# Altium footprint library QFN.PcbLib: 20 footprints (part 1 of 2)
Each footprint in its own frame and in the unit in brackets; x right, y up, seen from the top. Pads: shape width x height; smd on the part's side, far side on the other; paste and mask are expansions set on the pad; w line width, h text height; cw(c..) or ccw(c..) is an arc to the next point about the centre after c.
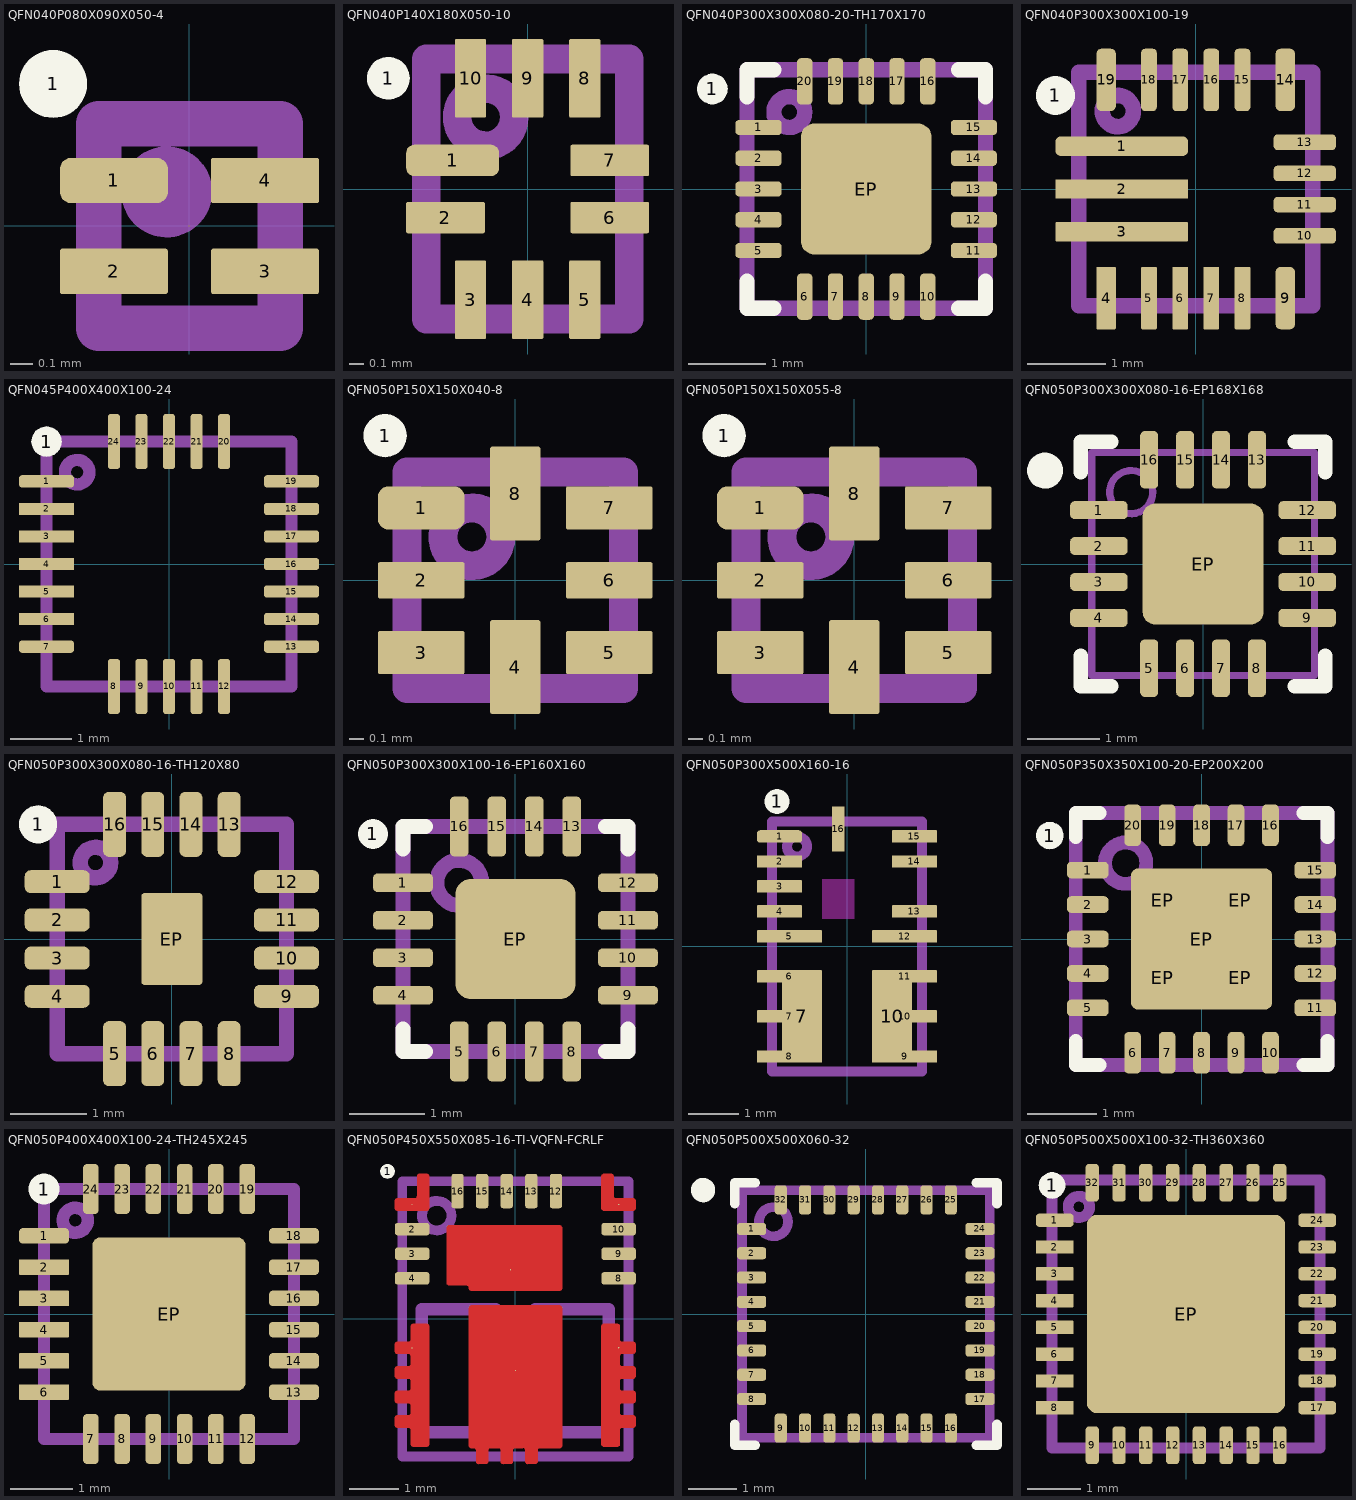
[diagram p0: the footprints below, top view; thin cyan lines are the x and y axes]

## QFN040P080X090X050-4 [mm] "UGFN-HR TI Package RAA"
pads (5):
  round 0.3 on Top Overlay: 1(-0.6,0.625)
  rrect50% 0.475x0.2 smd mask+0.038: 1(-0.333,0.2)
  rrect10% 0.475x0.2 smd mask+0.038: 2(-0.333,-0.2) 3(0.333,-0.2) 4(0.333,0.2)
Top Assembly:
  circle w0.2: c-0.1,0.15 r0.1
  lines w0.2: -0.4,-0.45 0.4,-0.45 0.4,0.45 -0.4,0.45 -0.4,-0.45
3D body "QFN040P080X090X050-4.step": height 0.6, standoff 0, extent -0.413,-0.45 0.41,0.45

## QFN040P140X180X050-10 [mm] "JEDEC SOT1160-1 XQFN10"
pads (11):
  round 0.3 on Top Overlay: 1(-0.975,0.775)
  rrect50% 0.65x0.22 smd mask+0.038: 1(-0.525,0.2)
  rrect10% 0.55x0.22 smd mask+0.038: 2(-0.575,-0.2) 6(0.575,-0.2) 7(0.575,0.2)
  rrect10% 0.22x0.55 smd mask+0.038: 3(-0.4,-0.775) 4(0,-0.775) 5(0.4,-0.775) 8(0.4,0.775) 9(0,0.775) 10(-0.4,0.775)
Top Assembly:
  circle w0.2: c-0.293,0.503 r0.2
  lines w0.2: -0.71,-0.91 0.71,-0.91 0.71,0.91 -0.71,0.91 -0.71,-0.91
3D body "QFN040P140X180X050-10.step": height 0.5, standoff 0, extent -0.71,-0.91 0.71,0.91

## QFN040P300X300X080-20-TH170X170 [mm]
pads (22):
  round 0.4 on Top Overlay: 1(-2,1.3)
  rrect50% 0.6x0.2 smd: 1(-1.4,0.8) 2(-1.4,0.4) 3(-1.4,0) 4(-1.4,-0.4) 5(-1.4,-0.8) 11(1.4,-0.8) 12(1.4,-0.4) 13(1.4,0) 14(1.4,0.4) 15(1.4,0.8)
  rrect50% 0.2x0.6 smd: 6(-0.8,-1.4) 7(-0.4,-1.4) 8(0,-1.4) 9(0.4,-1.4) 10(0.8,-1.4) 16(0.8,1.4) 17(0.4,1.4) 18(0,1.4) 19(-0.4,1.4) 20(-0.8,1.4)
  rrect20% 1.7x1.7 smd: EP(0,0)
Top Overlay:
  lines w0.2: -1.55,-1.2 -1.55,-1.55 -1.2,-1.55 ; -1.55,1.2 -1.55,1.55 -1.2,1.55 ; 1.2,-1.55 1.55,-1.55 1.55,-1.2 ; 1.2,1.55 1.55,1.55 1.55,1.2
Top Assembly:
  circle w0.2: c-1,1 r0.2
  lines w0.2: -1.55,-1.55 1.55,-1.55 1.55,1.55 -1.55,1.55 -1.55,-1.55
3D body: height 0.8, standoff 0.05, extent -1.55,-1.55 1.55,1.55
3D body: height 0.2, standoff 0, extent -0.85,-0.85 0.85,0.85
3D body: height 0.2, standoff 0, extent -1.551,-0.1 -1.051,0.1
3D body: height 0.2, standoff 0, extent -1.551,0.3 -1.051,0.5
3D body: height 0.2, standoff 0, extent -1.551,0.7 -1.051,0.9
3D body: height 0.2, standoff 0, extent -1.551,-0.5 -1.051,-0.3
3D body: height 0.2, standoff 0, extent -1.551,-0.9 -1.051,-0.7
3D body: height 0.2, standoff 0, extent -0.9,-1.551 -0.7,-1.051
3D body: height 0.2, standoff 0, extent -0.5,-1.551 -0.3,-1.051
3D body: height 0.2, standoff 0, extent -0.1,-1.551 0.1,-1.051
3D body: height 0.2, standoff 0, extent 0.3,-1.551 0.5,-1.051
3D body: height 0.2, standoff 0, extent 0.7,-1.551 0.9,-1.051
3D body: height 0.2, standoff 0, extent 1.051,-0.9 1.551,-0.7
3D body: height 0.2, standoff 0, extent 1.051,-0.5 1.551,-0.3
3D body: height 0.2, standoff 0, extent 1.051,-0.1 1.551,0.1
3D body: height 0.2, standoff 0, extent 1.051,0.3 1.551,0.5
3D body: height 0.2, standoff 0, extent 1.051,0.7 1.551,0.9
3D body: height 0.2, standoff 0, extent 0.7,1.051 0.9,1.551
3D body: height 0.2, standoff 0, extent 0.3,1.051 0.5,1.551
3D body: height 0.2, standoff 0, extent -0.1,1.051 0.1,1.551
3D body: height 0.2, standoff 0, extent -0.5,1.051 -0.3,1.551
3D body: height 0.2, standoff 0, extent -0.9,1.051 -0.7,1.551
3D body: height 0.81, standoff 0.8, extent -1.288,0.705 -0.688,1.305

## QFN040P300X300X100-19 [mm] "MP2659"
pads (20):
  round 0.5 on Top Overlay: 1(-1.8,1.2)
  rrect50% 1.7x0.25 smd mask+0.038: 1(-0.95,0.55)
  rrect10% 1.7x0.25 smd mask+0.038: 2(-0.95,0) 3(-0.95,-0.55)
  rrect10% 0.25x0.8 smd mask+0.038: 4(-1.15,-1.4)
  rrect10% 0.2x0.8 smd mask+0.038: 5(-0.6,-1.4) 6(-0.2,-1.4) 7(0.2,-1.4) 8(0.6,-1.4)
  rrect50% 0.25x0.8 smd mask+0.038: 9(1.15,-1.4) 14(1.15,1.4) 19(-1.15,1.4)
  rrect50% 0.8x0.2 smd mask+0.038: 10(1.4,-0.6) 11(1.4,-0.2) 12(1.4,0.2) 13(1.4,0.6)
  rrect50% 0.2x0.8 smd mask+0.038: 15(0.6,1.4) 16(0.2,1.4) 17(-0.2,1.4) 18(-0.6,1.4)
Top Assembly:
  circle w0.2: c-1,1 r0.2
  lines w0.2: -1.5,-1.5 1.5,-1.5 1.5,1.5 -1.5,1.5 -1.5,-1.5
3D body "QFN040P300X300X100-19.stp": height 1.01, standoff 0, extent -1.51,-1.51 1.51,1.51

## QFN045P400X400X100-24 [mm]
pads (25):
  rrect50% 0.9x0.2 smd mask+0: 1(-2,1.35) 7(-2,-1.35) 13(2,-1.35) 14(2,-0.9) 15(2,-0.45) 16(2,0) 17(2,0.45) 18(2,0.9) 19(2,1.35)
  round 0.5 on Top Overlay: 1(-2,2)
  rrect10% 0.9x0.2 smd mask+0: 2(-2,0.9) 3(-2,0.45) 4(-2,0) 5(-2,-0.45) 6(-2,-0.9)
  rrect50% 0.2x0.9 smd mask+0: 8(-0.9,-2) 9(-0.45,-2) 10(0,-2) 11(0.45,-2) 12(0.9,-2) 20(0.9,2) 21(0.45,2) 22(0,2) 23(-0.45,2) 24(-0.9,2)
Top Assembly:
  circle w0.2: c-1.5,1.5 r0.2
  lines w0.2: -2,-2 -2,2 2,2 2,-2 -2,-2
3D body "QFN045P400X400X100-24.stp": height 1.01, standoff 0, extent -2.005,-2.005 2.005,2.005

## QFN050P150X150X040-8 [mm] "JEDEC MO-288 X2ECD TI Package RUG"
pads (9):
  round 0.3 on Top Overlay: 1(-0.9,1)
  rrect50% 0.6x0.3 smd mask+0.038: 1(-0.65,0.5)
  rrect10% 0.6x0.25 smd mask+0.038: 2(-0.65,0) 6(0.65,0)
  rrect10% 0.6x0.3 smd mask+0.038: 3(-0.65,-0.5) 5(0.65,-0.5) 7(0.65,0.5)
  rrect10% 0.35x0.65 smd mask+0.038: 4(0,-0.6) 8(0,0.6)
Top Assembly:
  circle w0.2: c-0.3,0.3 r0.2
  lines w0.2: -0.75,-0.75 -0.75,0.75 0.75,0.75 0.75,-0.75 -0.75,-0.75
3D body "QFN050P150X150X040-8-RUG.stp": height 0.41, standoff 0, extent -0.76,-0.76 0.76,0.76

## QFN050P150X150X055-8 [mm] "JEDEC MO-288 X2ECD TI Package RSE"
height 0.55
pads (9):
  round 0.3 on Top Overlay: 1(-0.9,1)
  rrect50% 0.6x0.3 smd mask+0.038: 1(-0.65,0.5)
  rrect10% 0.6x0.25 smd mask+0.038: 2(-0.65,0) 6(0.65,0)
  rrect10% 0.6x0.3 smd mask+0.038: 3(-0.65,-0.5) 5(0.65,-0.5) 7(0.65,0.5)
  rrect10% 0.35x0.65 smd mask+0.038: 4(0,-0.6) 8(0,0.6)
Top Assembly:
  circle w0.2: c-0.3,0.3 r0.2
  lines w0.2: -0.75,-0.75 0.75,-0.75 0.75,0.75 -0.75,0.75 -0.75,-0.75
3D body "QFN050P150X150X040-8-RUG.stp": height 0.56, standoff 0.15, extent -0.76,-0.76 0.76,0.76

## QFN050P300X300X080-16-EP168X168 [mm] "QFN, 16-Leads, Body 3.00x3.00mm, Pitch 0.50mm, Thermal Pad 1.68x1.68mm, IPC Medium Density"
height 0.8
pads (17):
  rrect50% 0.8x0.25 smd: 1(-1.45,0.75) 2(-1.45,0.25) 3(-1.45,-0.25) 4(-1.45,-0.75) 9(1.45,-0.75) 10(1.45,-0.25) 11(1.45,0.25) 12(1.45,0.75)
  rrect50% 0.25x0.8 smd: 5(-0.75,-1.45) 6(-0.25,-1.45) 7(0.25,-1.45) 8(0.75,-1.45) 13(0.75,1.45) 14(0.25,1.45) 15(-0.25,1.45) 16(-0.75,1.45)
  rrect20% 1.68x1.68 smd: EP(0,0)
Top Overlay:
  circle w0.25: c-2.2,1.3 r0.125
  lines w0.2: -1.7,-1.275 -1.7,-1.7 -1.275,-1.7 ; -1.7,1.275 -1.7,1.7 -1.275,1.7 ; 1.275,-1.7 1.7,-1.7 1.7,-1.275 ; 1.275,1.7 1.7,1.7 1.7,1.275
Top Assembly:
  circle w0.1: c-1,1 r0.3
  lines w0.1: -1.55,-1.55 1.55,-1.55 1.55,1.55 -1.55,1.55 -1.55,-1.55
3D body "QFN050P300X300X080-16-EP173X173.step": height 0.8, standoff 0, extent -1.56,-1.56 1.56,1.56

## QFN050P300X300X080-16-TH120X80 [mm]
pads (18):
  round 0.5 on Top Overlay: 1(-1.75,1.5)
  rrect50% 0.85x0.3 smd: 1(-1.5,0.75) 2(-1.5,0.25) 3(-1.5,-0.25) 4(-1.5,-0.75) 9(1.5,-0.75) 10(1.5,-0.25) 11(1.5,0.25) 12(1.5,0.75)
  rrect50% 0.3x0.85 smd: 5(-0.75,-1.5) 6(-0.25,-1.5) 7(0.25,-1.5) 8(0.75,-1.5) 13(0.75,1.5) 14(0.25,1.5) 15(-0.25,1.5) 16(-0.75,1.5)
  rrect10% 0.8x1.2 smd: EP(0,0)
Top Assembly:
  circle w0.2: c-1,1 r0.2
  lines w0.2: -1.5,-1.5 -1.5,1.5 1.5,1.5 1.5,-1.5 -1.5,-1.5
3D body "QFN050P300X300X080-16-TH120X80.stp": height 0.81, standoff 0, extent -1.505,-1.505 1.505,1.505

## QFN050P300X300X100-16-EP160X160 [mm]
pads (18):
  round 0.4 on Top Overlay: 1(-1.9,1.4)
  rrect50% 0.8x0.25 smd: 1(-1.5,0.75) 2(-1.5,0.25) 3(-1.5,-0.25) 4(-1.5,-0.75) 9(1.5,-0.75) 10(1.5,-0.25) 11(1.5,0.25) 12(1.5,0.75)
  rrect50% 0.25x0.8 smd: 5(-0.75,-1.5) 6(-0.25,-1.5) 7(0.25,-1.5) 8(0.75,-1.5) 13(0.75,1.5) 14(0.25,1.5) 15(-0.25,1.5) 16(-0.75,1.5)
  rrect25% 1.6x1.6 smd: EP(0,0)
Top Overlay:
  lines w0.2: -1.5,-1.2 -1.5,-1.5 -1.2,-1.5 ; -1.5,1.2 -1.5,1.5 -1.2,1.5 ; 1.2,-1.5 1.5,-1.5 1.5,-1.2 ; 1.2,1.5 1.5,1.5 1.5,1.2
Top Assembly:
  circle w0.2: c-0.75,0.75 r0.3
  lines w0.2: -1.5,-1.5 -1.5,1.5 1.5,1.5 1.5,-1.5 -1.5,-1.5
3D body: height 1.01, standoff 1, extent -1.3,0.9 -0.9,1.3
3D body: height 1, standoff 0.03, extent -1.5,-1.5 1.5,1.5
3D body: height 0.2, standoff 0, extent -0.8,-0.8 0.8,0.8
3D body: height 0.2, standoff 0, extent -0.875,1.1 -0.625,1.51
3D body: height 0.2, standoff 0, extent -0.375,1.1 -0.125,1.51
3D body: height 0.2, standoff 0, extent 0.125,1.1 0.375,1.51
3D body: height 0.2, standoff 0, extent 0.625,1.1 0.875,1.51
3D body: height 0.2, standoff 0, extent 1.1,0.625 1.51,0.875
3D body: height 0.2, standoff 0, extent 1.1,0.125 1.51,0.375
3D body: height 0.2, standoff 0, extent 1.1,-0.375 1.51,-0.125
3D body: height 0.2, standoff 0, extent 1.1,-0.875 1.51,-0.625
3D body: height 0.2, standoff 0, extent 0.625,-1.51 0.875,-1.1
3D body: height 0.2, standoff 0, extent 0.125,-1.51 0.375,-1.1
3D body: height 0.2, standoff 0, extent -0.375,-1.51 -0.125,-1.1
3D body: height 0.2, standoff 0, extent -0.875,-1.51 -0.625,-1.1
3D body: height 0.2, standoff 0, extent -1.51,-0.875 -1.1,-0.625
3D body: height 0.2, standoff 0, extent -1.51,-0.375 -1.1,-0.125
3D body: height 0.2, standoff 0, extent -1.51,0.125 -1.1,0.375
3D body: height 0.2, standoff 0, extent -1.51,0.625 -1.1,0.875

## QFN050P300X500X160-16 [mm] "Recom RPX-1.0-R"
pads (19):
  round 0.5 on Top Overlay: 1(-1.4,2.9)
  rrect50% 0.9x0.25 smd mask+0.038: 1(-1.35,2.2)
  rrect10% 0.9x0.25 smd mask+0.038: 2(-1.35,1.7) 3(-1.35,1.2) 4(-1.35,0.7) 13(1.35,0.7) 14(1.35,1.7) 15(1.35,2.2)
  rrect10% 1.3x0.25 smd mask+0.038: 5(-1.15,0.2) 6(-1.15,-0.6) 7(-1.15,-1.4) 8(-1.15,-2.2) 9(1.15,-2.2) 10(1.15,-1.4) 11(1.15,-0.6) 12(1.15,0.2)
  rrect10% 0.8x1.85 smd mask+0.038: 7(-0.9,-1.4) 10(0.9,-1.4)
  rrect10% 0.25x0.9 smd mask+0.038: 16(-0.175,2.35)
Top Layer keep-out:
  rectangle: -0.5,0.55 0.15,1.35
Top Assembly:
  circle w0.2: c-1,2 r0.2
  lines w0.2: -1.5,-2.5 -1.5,2.5 1.5,2.5 1.5,-2.5 -1.5,-2.5
3D body "QFN050P300X500X160-16.stp": height 1.6, standoff 0, extent -1.505,-2.5 1.505,2.505

## QFN050P350X350X100-20-EP200X200 [mm]
pads (26):
  round 0.4 on Top Overlay: 1(-2.2,1.5)
  rrect50% 0.6x0.24 smd: 1(-1.65,1) 2(-1.65,0.5) 3(-1.65,0) 4(-1.65,-0.5) 5(-1.65,-1) 11(1.65,-1) 12(1.65,-0.5) 13(1.65,0) 14(1.65,0.5) 15(1.65,1)
  rrect50% 0.24x0.6 smd: 6(-1,-1.65) 7(-0.5,-1.65) 8(0,-1.65) 9(0.5,-1.65) 10(1,-1.65) 16(1,1.65) 17(0.5,1.65) 18(0,1.65) 19(-0.5,1.65) 20(-1,1.65)
  rrect20% 0.92x0.92 on Top Paste: EP(-0.56,-0.56) EP(-0.56,0.56) EP(0.56,-0.56) EP(0.56,0.56)
  rrect10% 2.05x2.05 smd paste-2539.97: EP(0,0)
Top Overlay:
  lines w0.2: -1.825,-1.475 -1.825,-1.825 -1.475,-1.825 ; -1.825,1.475 -1.825,1.825 -1.475,1.825 ; 1.475,-1.825 1.825,-1.825 1.825,-1.475 ; 1.475,1.825 1.825,1.825 1.825,1.475
Top Assembly:
  circle w0.2: c-1.1,1.1 r0.3
  lines w0.2: -1.825,-1.825 -1.825,1.825 1.825,1.825 1.825,-1.825 -1.825,-1.825
3D body: height 1, standoff 0.05, extent -1.825,-1.825 1.825,1.825
3D body: height 0.2, standoff 0, extent -1.826,-0.12 -1.326,0.12
3D body: height 0.2, standoff 0, extent -1.826,0.38 -1.326,0.62
3D body: height 0.2, standoff 0, extent -1.826,0.88 -1.326,1.12
3D body: height 0.2, standoff 0, extent -1.826,-0.62 -1.326,-0.38
3D body: height 0.2, standoff 0, extent -1.826,-1.12 -1.326,-0.88
3D body: height 0.2, standoff 0, extent -0.12,-1.826 0.12,-1.326
3D body: height 0.2, standoff 0, extent -0.62,-1.826 -0.38,-1.326
3D body: height 0.2, standoff 0, extent -1.12,-1.826 -0.88,-1.326
3D body: height 0.2, standoff 0, extent 0.38,-1.826 0.62,-1.326
3D body: height 0.2, standoff 0, extent 0.88,-1.826 1.12,-1.326
3D body: height 0.2, standoff 0, extent 1.326,-0.12 1.826,0.12
3D body: height 0.2, standoff 0, extent 1.326,-0.62 1.826,-0.38
3D body: height 0.2, standoff 0, extent 1.326,-1.12 1.826,-0.88
3D body: height 0.2, standoff 0, extent 1.326,0.38 1.826,0.62
3D body: height 0.2, standoff 0, extent 1.326,0.88 1.826,1.12
3D body: height 0.2, standoff 0, extent -0.12,1.326 0.12,1.826
3D body: height 0.2, standoff 0, extent 0.38,1.326 0.62,1.826
3D body: height 0.2, standoff 0, extent 0.88,1.326 1.12,1.826
3D body: height 0.2, standoff 0, extent -0.62,1.326 -0.38,1.826
3D body: height 0.2, standoff 0, extent -1.12,1.326 -0.88,1.826
3D body: height 0.2, standoff 0, extent -1.025,-1.025 1.025,1.025
3D body: height 1.01, standoff 1, extent -1.5,0.9 -0.9,1.5

## QFN050P400X400X100-24-TH245X245 [mm]
pads (26):
  rrect50% 0.8x0.25 smd mask+0.038: 1(-2,1.25) 13(2,-1.25) 14(2,-0.75) 15(2,-0.25) 16(2,0.25) 17(2,0.75) 18(2,1.25)
  round 0.5 on Top Overlay: 1(-2,2)
  rrect10% 0.8x0.25 smd mask+0.038: 2(-2,0.75) 3(-2,0.25) 4(-2,-0.25) 5(-2,-0.75) 6(-2,-1.25)
  rrect50% 0.25x0.8 smd mask+0.038: 7(-1.25,-2) 8(-0.75,-2) 9(-0.25,-2) 10(0.25,-2) 11(0.75,-2) 12(1.25,-2) 19(1.25,2) 20(0.75,2) 21(0.25,2) 22(-0.25,2) 23(-0.75,2) 24(-1.25,2)
  rrect10% 2.45x2.45 smd mask+0.038: EP(0,0)
Top Assembly:
  circle w0.2: c-1.5,1.5 r0.2
  lines w0.2: -2,-2 -2,2 2,2 2,-2 -2,-2
3D body "QFN050P400X400X100-24-TH245X245.stp": height 0.81, standoff 0, extent -2.01,-2.01 2.01,2.01

## QFN050P450X550X085-16-TI-VQFN-FCRLF [mm] "QFN-16 Texas Instruments VQFN-FCRLF  (RAR0017B)"
pads (18):
  round 0.3 on Top Overlay: 1(-2.6,3)
  round 0.025 smd: 1(-2.1,2.325) 5(-2.1,-0.587) 6(0,-1.05) 7(2.1,-0.587) 11(2.1,2.325) 17(-0.1,1)
  rrect40% 0.7x0.25 smd: 2(-2.1,1.825) 3(-2.1,1.325) 4(-2.1,0.825) 8(2.1,0.825) 9(2.1,1.325) 10(2.1,1.825)
  rrect40% 0.25x0.7 smd: 12(0.825,2.6) 13(0.325,2.6) 14(-0.175,2.6) 15(-0.675,2.6) 16(-1.175,2.6)
Top Layer:
  region: 0.15,-2.625 0.16,-2.626 0.178,-2.633 0.192,-2.647 0.199,-2.665 0.2,-2.675 0.2,-2.9 0.2,-2.91 0.208,-2.928 0.222,-2.942 0.24,-2.95 0.25,-2.95 0.4,-2.95 0.41,-2.95 0.428,-2.942 0.442,-2.928 0.45,-2.91 0.45,-2.9 0.45,-2.675 0.451,-2.665 0.458,-2.647 0.472,-2.633 0.49,-2.626 0.5,-2.625 0.9,-2.625 0.91,-2.625 0.928,-2.617 0.942,-2.603 0.95,-2.585 0.95,-2.575 0.95,0.221 0.95,0.232 0.942,0.252 0.927,0.267 0.907,0.275 0.896,0.275 -0.9,0.275 -0.9,0.271 -0.91,0.271 -0.928,0.263 -0.942,0.249 -0.95,0.231 -0.95,0.221 -0.95,-2.575 -0.95,-2.585 -0.942,-2.603 -0.928,-2.617 -0.91,-2.625 -0.9,-2.625 -0.85,-2.625 -0.84,-2.626 -0.822,-2.633 -0.808,-2.647 -0.801,-2.665 -0.8,-2.675 -0.8,-2.9 -0.8,-2.91 -0.792,-2.928 -0.778,-2.942 -0.76,-2.95 -0.75,-2.95 -0.6,-2.95 -0.59,-2.95 -0.572,-2.942 -0.558,-2.928 -0.55,-2.91 -0.55,-2.9 -0.55,-2.675 -0.549,-2.665 -0.542,-2.647 -0.528,-2.633 -0.51,-2.626 -0.5,-2.625 -0.35,-2.625 -0.34,-2.626 -0.322,-2.633 -0.308,-2.647 -0.301,-2.665 -0.3,-2.675 -0.3,-2.9 -0.3,-2.91 -0.292,-2.928 -0.278,-2.942 -0.26,-2.95 -0.25,-2.95 -0.1,-2.95 -0.09,-2.95 -0.072,-2.942 -0.058,-2.928 -0.05,-2.91 -0.05,-2.9 -0.05,-2.675 -0.049,-2.665 -0.042,-2.647 -0.028,-2.633 -0.01,-2.626 0,-2.625 -0.05,-2.625
  region: 2.4,2.45 2.41,2.45 2.428,2.442 2.442,2.428 2.45,2.41 2.45,2.4 2.45,2.25 2.45,2.24 2.442,2.222 2.428,2.208 2.41,2.2 2.4,2.2 1.8,2.2 1.79,2.2 1.772,2.208 1.758,2.222 1.75,2.24 1.75,2.25 1.75,2.9 1.75,2.91 1.758,2.928 1.772,2.942 1.79,2.95 1.8,2.95 1.95,2.95 1.96,2.95 1.978,2.942 1.992,2.928 2,2.91 2,2.9 2,2.5 2.001,2.49 2.008,2.472 2.022,2.458 2.04,2.451 2.05,2.45
  region: -2.4,2.45 -2.41,2.45 -2.428,2.442 -2.442,2.428 -2.45,2.41 -2.45,2.4 -2.45,2.25 -2.45,2.24 -2.442,2.222 -2.428,2.208 -2.41,2.2 -2.4,2.2 -1.8,2.2 -1.79,2.2 -1.772,2.208 -1.758,2.222 -1.75,2.24 -1.75,2.25 -1.75,2.9 -1.75,2.91 -1.758,2.928 -1.772,2.942 -1.79,2.95 -1.8,2.95 -1.95,2.95 -1.96,2.95 -1.978,2.942 -1.992,2.928 -2,2.91 -2,2.9 -2,2.5 -2.001,2.49 -2.008,2.472 -2.022,2.458 -2.04,2.451 -2.05,2.45
  region: 0.95,1.85 0.95,1.86 0.942,1.878 0.928,1.892 0.91,1.9 0.9,1.9 -1.35,1.9 -1.36,1.9 -1.378,1.892 -1.392,1.878 -1.4,1.86 -1.4,1.85 -1.4,0.735 -1.4,0.725 -1.392,0.707 -1.378,0.693 -1.36,0.685 -1.35,0.685 -1.005,0.685 -0.994,0.684 -0.974,0.676 -0.959,0.661 -0.951,0.641 -0.95,0.63 -0.95,0.618 -0.941,0.597 -0.924,0.58 -0.903,0.571 -0.891,0.571 0.9,0.571 0.91,0.571 0.928,0.579 0.942,0.593 0.95,0.611 0.95,0.621
  region: -2.175,-2.212 -2.165,-2.213 -2.147,-2.22 -2.133,-2.234 -2.126,-2.252 -2.125,-2.262 -2.125,-2.55 -2.125,-2.56 -2.117,-2.578 -2.103,-2.592 -2.085,-2.6 -2.075,-2.6 -1.8,-2.6 -1.79,-2.6 -1.772,-2.592 -1.758,-2.578 -1.75,-2.56 -1.75,-2.55 -1.75,-0.15 -1.75,-0.14 -1.758,-0.122 -1.772,-0.108 -1.79,-0.1 -1.8,-0.1 -2.075,-0.1 -2.085,-0.1 -2.103,-0.108 -2.117,-0.122 -2.125,-0.14 -2.125,-0.15 -2.125,-0.412 -2.126,-0.422 -2.133,-0.44 -2.147,-0.454 -2.165,-0.461 -2.175,-0.462 -2.4,-0.462 -2.41,-0.462 -2.428,-0.47 -2.442,-0.484 -2.45,-0.502 -2.45,-0.512 -2.45,-0.662 -2.45,-0.672 -2.442,-0.69 -2.428,-0.704 -2.41,-0.712 -2.4,-0.712 -2.175,-0.712 -2.165,-0.713 -2.147,-0.72 -2.133,-0.734 -2.126,-0.752 -2.125,-0.762 -2.125,-0.912 -2.126,-0.922 -2.133,-0.94 -2.147,-0.954 -2.165,-0.961 -2.175,-0.962 -2.4,-0.962 -2.41,-0.962 -2.428,-0.97 -2.442,-0.984 -2.45,-1.002 -2.45,-1.012 -2.45,-1.162 -2.45,-1.172 -2.442,-1.19 -2.428,-1.204 -2.41,-1.212 -2.4,-1.212 -2.175,-1.212 -2.165,-1.213 -2.147,-1.22 -2.133,-1.234 -2.126,-1.252 -2.125,-1.262 -2.125,-1.412 -2.126,-1.422 -2.133,-1.44 -2.147,-1.454 -2.165,-1.461 -2.175,-1.462 -2.4,-1.462 -2.41,-1.462 -2.428,-1.47 -2.442,-1.484 -2.45,-1.502 -2.45,-1.512 -2.45,-1.662 -2.45,-1.672 -2.442,-1.69 -2.428,-1.704 -2.41,-1.712 -2.4,-1.712 -2.175,-1.712 -2.165,-1.713 -2.147,-1.72 -2.133,-1.734 -2.126,-1.752 -2.125,-1.762 -2.125,-1.912 -2.126,-1.922 -2.133,-1.94 -2.147,-1.954 -2.165,-1.961 -2.175,-1.962 -2.4,-1.962 -2.41,-1.962 -2.428,-1.97 -2.442,-1.984 -2.45,-2.002 -2.45,-2.012 -2.45,-2.162 -2.45,-2.172 -2.442,-2.19 -2.428,-2.204 -2.41,-2.212 -2.4,-2.212
  region: 2.175,-2.212 2.165,-2.213 2.147,-2.22 2.133,-2.234 2.126,-2.252 2.125,-2.262 2.125,-2.55 2.125,-2.56 2.117,-2.578 2.103,-2.592 2.085,-2.6 2.075,-2.6 1.8,-2.6 1.79,-2.6 1.772,-2.592 1.758,-2.578 1.75,-2.56 1.75,-2.55 1.75,-0.15 1.75,-0.14 1.758,-0.122 1.772,-0.108 1.79,-0.1 1.8,-0.1 2.075,-0.1 2.085,-0.1 2.103,-0.108 2.117,-0.122 2.125,-0.14 2.125,-0.15 2.125,-0.412 2.126,-0.422 2.133,-0.44 2.147,-0.454 2.165,-0.461 2.175,-0.462 2.4,-0.462 2.41,-0.462 2.428,-0.47 2.442,-0.484 2.45,-0.502 2.45,-0.512 2.45,-0.662 2.45,-0.672 2.442,-0.69 2.428,-0.704 2.41,-0.712 2.4,-0.712 2.175,-0.712 2.165,-0.713 2.147,-0.72 2.133,-0.734 2.126,-0.752 2.125,-0.762 2.125,-0.912 2.126,-0.922 2.133,-0.94 2.147,-0.954 2.165,-0.961 2.175,-0.962 2.4,-0.962 2.41,-0.962 2.428,-0.97 2.442,-0.984 2.45,-1.002 2.45,-1.012 2.45,-1.162 2.45,-1.172 2.442,-1.19 2.428,-1.204 2.41,-1.212 2.4,-1.212 2.175,-1.212 2.165,-1.213 2.147,-1.22 2.133,-1.234 2.126,-1.252 2.125,-1.262 2.125,-1.412 2.126,-1.422 2.133,-1.44 2.147,-1.454 2.165,-1.461 2.175,-1.462 2.4,-1.462 2.41,-1.462 2.428,-1.47 2.442,-1.484 2.45,-1.502 2.45,-1.512 2.45,-1.662 2.45,-1.672 2.442,-1.69 2.428,-1.704 2.41,-1.712 2.4,-1.712 2.175,-1.712 2.165,-1.713 2.147,-1.72 2.133,-1.734 2.126,-1.752 2.125,-1.762 2.125,-1.912 2.126,-1.922 2.133,-1.94 2.147,-1.954 2.165,-1.961 2.175,-1.962 2.4,-1.962 2.41,-1.962 2.428,-1.97 2.442,-1.984 2.45,-2.002 2.45,-2.012 2.45,-2.162 2.45,-2.172 2.442,-2.19 2.428,-2.204 2.41,-2.212 2.4,-2.212
Top Assembly:
  circle w0.2: c-1.6,2.1 r0.3
  lines w0.2: -2.3,-2.8 2.3,-2.8 2.3,2.8 -2.3,2.8 -2.3,-2.8
  lines w0.254: -1.9,-2.3 -0.4,-2.3 -0.4,0.2 -1.9,0.2 -1.9,-2.3 ; 0.4,-2.3 1.9,-2.3 1.9,0.2 0.4,0.2 0.4,-2.3
3D body: height 0.85, standoff 0.85, extent -1.8,1.7 -1.2,2.3
3D body: height 0.13, standoff 0, extent -1.4,0.571 0.95,1.9
3D body: height 0.13, standoff 0, extent -2.075,-2.6 -1.7,-0.1
3D body: height 0.13, standoff 0, extent 1.7,-2.6 2.075,-0.1
3D body: height 0.13, standoff 0, extent -0.95,-2.625 0.95,0.271
3D body: height 0.85, standoff 0.85, extent -1.9,-2.3 -0.4,0.2
3D body: height 0.85, standoff 0.85, extent 0.4,-2.3 1.9,0.2
3D body: height 0.85, standoff 0.05, extent -2.29,-2.79 2.29,2.79
3D body: height 0.13, standoff 0, extent -0.325,-2.8 -0.025,-2.2
3D body: height 0.13, standoff 0, extent -0.825,-2.8 -0.525,-2.2
3D body: height 0.13, standoff 0, extent 0.175,-2.8 0.475,-2.2
3D body: height 0.13, standoff 0, extent -1.325,2.2 -1.025,2.8
3D body: height 0.13, standoff 0, extent -0.825,2.2 -0.525,2.8
3D body: height 0.13, standoff 0, extent -0.325,2.2 -0.025,2.8
3D body: height 0.13, standoff 0, extent 0.175,2.2 0.475,2.8
3D body: height 0.13, standoff 0, extent 0.675,2.2 0.975,2.8
3D body: height 0.13, standoff 0, extent 1.725,2.2 2.025,2.8
3D body: height 0.13, standoff 0, extent -2.025,2.2 -1.725,2.8
3D body: height 0.13, standoff 0, extent -2.3,2.175 -1.7,2.475
3D body: height 0.13, standoff 0, extent -2.3,1.675 -1.7,1.975
3D body: height 0.13, standoff 0, extent -2.3,1.175 -1.7,1.475
3D body: height 0.13, standoff 0, extent -2.3,0.675 -1.7,0.975
3D body: height 0.13, standoff 0, extent -2.3,-0.737 -1.7,-0.437
3D body: height 0.13, standoff 0, extent -2.3,-1.237 -1.7,-0.937
3D body: height 0.13, standoff 0, extent -2.3,-1.737 -1.7,-1.437
3D body: height 0.13, standoff 0, extent -2.3,-2.237 -1.7,-1.937
3D body: height 0.13, standoff 0, extent 1.7,2.175 2.3,2.475
3D body: height 0.13, standoff 0, extent 1.7,1.675 2.3,1.975
3D body: height 0.13, standoff 0, extent 1.7,1.175 2.3,1.475
3D body: height 0.13, standoff 0, extent 1.7,0.675 2.3,0.975
3D body: height 0.13, standoff 0, extent 1.7,-0.737 2.3,-0.437
3D body: height 0.13, standoff 0, extent 1.7,-1.237 2.3,-0.937
3D body: height 0.13, standoff 0, extent 1.7,-1.737 2.3,-1.437
3D body: height 0.13, standoff 0, extent 1.7,-2.237 2.3,-1.937

## QFN050P500X500X060-32 [mm] "QFN, 32-Leads, Body 5.00x5.00mm, Pitch 0.50mm, IPC Medium Density"
height 0.6
pads (32):
  rrect50% 0.6x0.25 smd: 1(-2.35,1.75) 2(-2.35,1.25) 3(-2.35,0.75) 4(-2.35,0.25) 5(-2.35,-0.25) 6(-2.35,-0.75) 7(-2.35,-1.25) 8(-2.35,-1.75) 17(2.35,-1.75) 18(2.35,-1.25) 19(2.35,-0.75) 20(2.35,-0.25) 21(2.35,0.25) 22(2.35,0.75) 23(2.35,1.25) 24(2.35,1.75)
  rrect50% 0.25x0.6 smd: 9(-1.75,-2.35) 10(-1.25,-2.35) 11(-0.75,-2.35) 12(-0.25,-2.35) 13(0.25,-2.35) 14(0.75,-2.35) 15(1.25,-2.35) 16(1.75,-2.35) 25(1.75,2.35) 26(1.25,2.35) 27(0.75,2.35) 28(0.25,2.35) 29(-0.25,2.35) 30(-0.75,2.35) 31(-1.25,2.35) 32(-1.75,2.35)
Top Overlay:
  circle w0.25: c-3.35,2.55 r0.125
  lines w0.2: -2.7,-2.275 -2.7,-2.7 -2.275,-2.7 ; -2.7,2.275 -2.7,2.7 -2.275,2.7 ; 2.275,-2.7 2.7,-2.7 2.7,-2.275 ; 2.275,2.7 2.7,2.7 2.7,2.275
Top Assembly:
  circle w0.2: c-1.9,1.9 r0.3
  lines w0.2: -2.55,-2.55 2.55,-2.55 2.55,2.55 -2.55,2.55 -2.55,-2.55
3D body: height 0.7, standoff 0.6, extent -2.009,1.368 -1.409,1.968
3D body: height 0.6, standoff 0.02, extent -2.55,-2.55 2.55,2.55
3D body: height 0.15, standoff 0, extent -2.56,1.625 -2.31,1.875
3D body: height 0.15, standoff 0, extent -2.56,1.125 -2.31,1.375
3D body: height 0.15, standoff 0, extent -2.56,0.625 -2.31,0.875
3D body: height 0.15, standoff 0, extent -2.56,0.125 -2.31,0.375
3D body: height 0.15, standoff 0, extent -2.56,-0.375 -2.31,-0.125
3D body: height 0.15, standoff 0, extent -2.56,-0.875 -2.31,-0.625
3D body: height 0.15, standoff 0, extent -2.56,-1.375 -2.31,-1.125
3D body: height 0.15, standoff 0, extent -2.56,-1.875 -2.31,-1.625
3D body: height 0.15, standoff 0, extent -1.875,-2.56 -1.625,-2.31
3D body: height 0.15, standoff 0, extent -1.375,-2.56 -1.125,-2.31
3D body: height 0.15, standoff 0, extent -0.875,-2.56 -0.625,-2.31
3D body: height 0.15, standoff 0, extent -0.375,-2.56 -0.125,-2.31
3D body: height 0.15, standoff 0, extent 0.125,-2.56 0.375,-2.31
3D body: height 0.15, standoff 0, extent 0.625,-2.56 0.875,-2.31
3D body: height 0.15, standoff 0, extent 1.125,-2.56 1.375,-2.31
3D body: height 0.15, standoff 0, extent 1.625,-2.56 1.875,-2.31
3D body: height 0.15, standoff 0, extent 2.31,-1.875 2.56,-1.625
3D body: height 0.15, standoff 0, extent 2.31,-1.375 2.56,-1.125
3D body: height 0.15, standoff 0, extent 2.31,-0.875 2.56,-0.625
3D body: height 0.15, standoff 0, extent 2.31,-0.375 2.56,-0.125
3D body: height 0.15, standoff 0, extent 2.31,0.125 2.56,0.375
3D body: height 0.15, standoff 0, extent 2.31,0.625 2.56,0.875
3D body: height 0.15, standoff 0, extent 2.31,1.125 2.56,1.375
3D body: height 0.15, standoff 0, extent 2.31,1.625 2.56,1.875
3D body: height 0.15, standoff 0, extent 1.625,2.31 1.875,2.56
3D body: height 0.15, standoff 0, extent 1.125,2.31 1.375,2.56
3D body: height 0.15, standoff 0, extent 0.625,2.31 0.875,2.56
3D body: height 0.15, standoff 0, extent 0.125,2.31 0.375,2.56
3D body: height 0.15, standoff 0, extent -0.375,2.31 -0.125,2.56
3D body: height 0.15, standoff 0, extent -0.875,2.31 -0.625,2.56
3D body: height 0.15, standoff 0, extent -1.375,2.31 -1.125,2.56
3D body: height 0.15, standoff 0, extent -1.875,2.31 -1.625,2.56

## QFN050P500X500X100-32-TH360X360 [mm]
pads (34):
  round 0.5 on Top Overlay: 1(-2.5,2.4)
  rrect50% 0.7x0.25 smd mask+0.038: 1(-2.45,1.75) 17(2.45,-1.75) 18(2.45,-1.25) 19(2.45,-0.75) 20(2.45,-0.25) 21(2.45,0.25) 22(2.45,0.75) 23(2.45,1.25) 24(2.45,1.75)
  rrect10% 0.7x0.25 smd mask+0.038: 2(-2.45,1.25) 3(-2.45,0.75) 4(-2.45,0.25) 5(-2.45,-0.25) 6(-2.45,-0.75) 7(-2.45,-1.25) 8(-2.45,-1.75)
  rrect50% 0.25x0.7 smd mask+0.038: 9(-1.75,-2.45) 10(-1.25,-2.45) 11(-0.75,-2.45) 12(-0.25,-2.45) 13(0.25,-2.45) 14(0.75,-2.45) 15(1.25,-2.45) 16(1.75,-2.45) 25(1.75,2.45) 26(1.25,2.45) 27(0.75,2.45) 28(0.25,2.45) 29(-0.25,2.45) 30(-0.75,2.45) 31(-1.25,2.45) 32(-1.75,2.45)
  rrect10% 3.7x3.7 smd mask+0.038: EP(0,0)
Top Assembly:
  circle w0.2: c-2,2 r0.2
  lines w0.2: -2.5,-2.5 2.5,-2.5 2.5,2.5 -2.5,2.5 -2.5,-2.5
3D body "QFN050P500X500X100-32-TH360X360.stp": height 1.01, standoff 0, extent -2.505,-2.505 2.505,2.505